# EAGLE library part IC_LED_MAX7219 (library mylib_20130829)
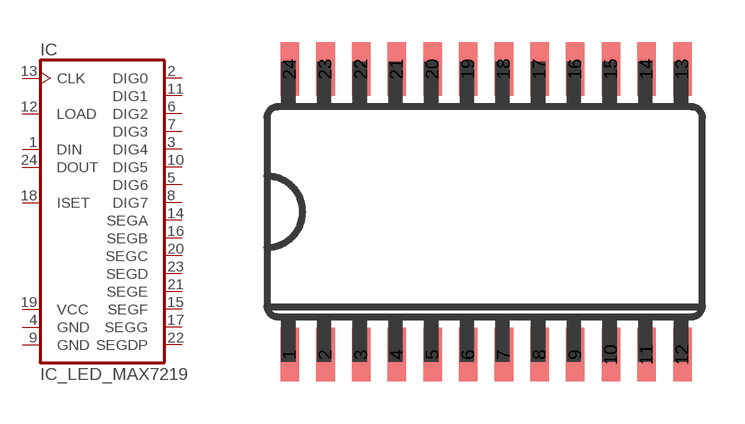
[diagram p4: symbol with the pads of IC_24_1.27_300MIL; footprint IC_24_1.27_300MIL]

Designator prefix IC

## IC_LED_MAX7219  [IC_24_1.27_300MIL]
1  DIN  in
2  DIG0  out
3  DIG4  out
4  GND  pwr
5  DIG6  out
6  DIG2  out
7  DIG3  out
8  DIG7  out
9  GND  pwr
10  DIG5  out
11  DIG1  out
12  LOAD  in
13  CLK  in
14  SEGA  out
15  SEGF  out
16  SEGB  out
17  SEGG  out
18  ISET  in
19  VCC  pwr
20  SEGC  out
21  SEGE  out
22  SEGDP  out
23  SEGD  out
24  DOUT  out

## Footprint IC_24_1.27_300MIL (pad centres in mm)
Small Outline Package
smd 0.66 x 1.905: 1 -7.569,-5.08; 2 -6.299,-5.08; 3 -5.029,-5.08; 4 -3.759,-5.08; 5 -2.489,-5.08; 6 -1.219,-5.08; 7 0.051,-5.08; 8 1.321,-5.08; 9 2.591,-5.08; 10 3.861,-5.08; 11 5.131,-5.08; 12 6.401,-5.08; 13 6.401,5.08; 14 5.131,5.08; 15 3.861,5.08; 16 2.591,5.08; 17 1.321,5.08; 18 0.051,5.08; 19 -1.219,5.08; 20 -2.489,5.08; 21 -3.759,5.08; 22 -5.029,5.08; 23 -6.299,5.08; 24 -7.569,5.08